# Altium schematic symbol library SCH - MCU - RENESAS - RENESAS R7FS3A67XXXXXXFL 48LQFP.SchLib: 1 symbol
Pins are listed as number, name and electrical type; pins without a type are passive.

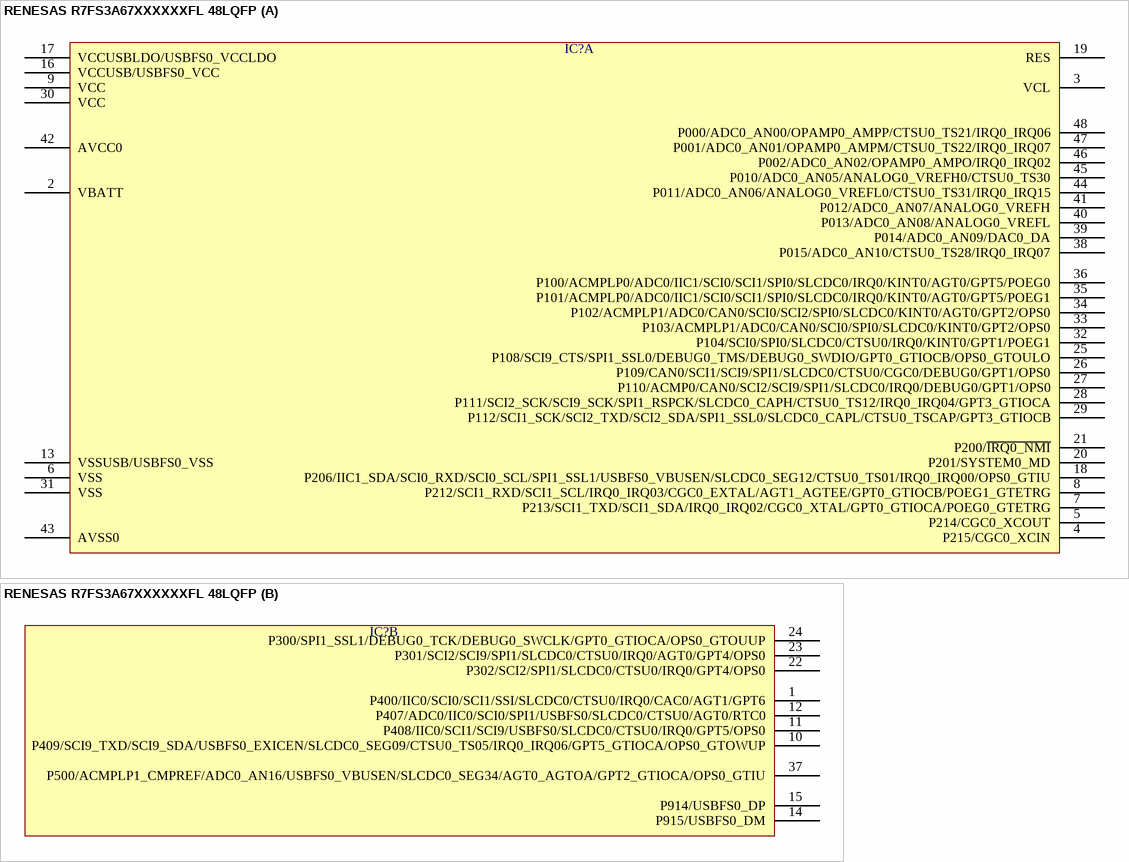
[diagram p0: symbol RENESAS R7FS3A67XXXXXXFL 48LQFP]

## RENESAS R7FS3A67XXXXXXFL 48LQFP
designator IC?  (value not drawn)
part A pins: 2 VBATT, 3 VCL, 4 P215/CGC0_XCIN, 5 P214/CGC0_XCOUT, 6 VSS, 7 P213/SCI1_TXD/SCI1_SDA/IRQ0_IRQ02/CGC0_XTAL/GPT0_GTIOCA/POEG0_GTETRG, 8 P212/SCI1_RXD/SCI1_SCL/IRQ0_IRQ03/CGC0_EXTAL/AGT1_AGTEE/GPT0_GTIOCB/POEG1_GTETRG, 9 VCC, 13 VSSUSB/USBFS0_VSS, 16 VCCUSB/USBFS0_VCC, 17 VCCUSBLDO/USBFS0_VCCLDO, 18 P206/IIC1_SDA/SCI0_RXD/SCI0_SCL/SPI1_SSL1/USBFS0_VBUSEN/SLCDC0_SEG12/CTSU0_TS01/IRQ0_IRQ00/OPS0_GTIU, 19 RES, 20 P201/SYSTEM0_MD, 21 P200/~{IRQ0_NMI}, 25 P108/SCI9_CTS/SPI1_SSL0/DEBUG0_TMS/DEBUG0_SWDIO/GPT0_GTIOCB/OPS0_GTOULO, 26 P109/CAN0/SCI1/SCI9/SPI1/SLCDC0/CTSU0/CGC0/DEBUG0/GPT1/OPS0, 27 P110/ACMP0/CAN0/SCI2/SCI9/SPI1/SLCDC0/IRQ0/DEBUG0/GPT1/OPS0, 28 P111/SCI2_SCK/SCI9_SCK/SPI1_RSPCK/SLCDC0_CAPH/CTSU0_TS12/IRQ0_IRQ04/GPT3_GTIOCA, 29 P112/SCI1_SCK/SCI2_TXD/SCI2_SDA/SPI1_SSL0/SLCDC0_CAPL/CTSU0_TSCAP/GPT3_GTIOCB, 30 VCC, 31 VSS, 32 P104/SCI0/SPI0/SLCDC0/CTSU0/IRQ0/KINT0/GPT1/POEG1, 33 P103/ACMPLP1/ADC0/CAN0/SCI0/SPI0/SLCDC0/KINT0/GPT2/OPS0, 34 P102/ACMPLP1/ADC0/CAN0/SCI0/SCI2/SPI0/SLCDC0/KINT0/AGT0/GPT2/OPS0, 35 P101/ACMPLP0/ADC0/IIC1/SCI0/SCI1/SPI0/SLCDC0/IRQ0/KINT0/AGT0/GPT5/POEG1, 36 P100/ACMPLP0/ADC0/IIC1/SCI0/SCI1/SPI0/SLCDC0/IRQ0/KINT0/AGT0/GPT5/POEG0, 38 P015/ADC0_AN10/CTSU0_TS28/IRQ0_IRQ07, 39 P014/ADC0_AN09/DAC0_DA, 40 P013/ADC0_AN08/ANALOG0_VREFL, 41 P012/ADC0_AN07/ANALOG0_VREFH, 42 AVCC0, 43 AVSS0, 44 P011/ADC0_AN06/ANALOG0_VREFL0/CTSU0_TS31/IRQ0_IRQ15, 45 P010/ADC0_AN05/ANALOG0_VREFH0/CTSU0_TS30, 46 P002/ADC0_AN02/OPAMP0_AMPO/IRQ0_IRQ02, 47 P001/ADC0_AN01/OPAMP0_AMPM/CTSU0_TS22/IRQ0_IRQ07, 48 P000/ADC0_AN00/OPAMP0_AMPP/CTSU0_TS21/IRQ0_IRQ06
part B pins: 1 P400/IIC0/SCI0/SCI1/SSI/SLCDC0/CTSU0/IRQ0/CAC0/AGT1/GPT6, 10 P409/SCI9_TXD/SCI9_SDA/USBFS0_EXICEN/SLCDC0_SEG09/CTSU0_TS05/IRQ0_IRQ06/GPT5_GTIOCA/OPS0_GTOWUP, 11 P408/IIC0/SCI1/SCI9/USBFS0/SLCDC0/CTSU0/IRQ0/GPT5/OPS0, 12 P407/ADC0/IIC0/SCI0/SPI1/USBFS0/SLCDC0/CTSU0/AGT0/RTC0, 14 P915/USBFS0_DM, 15 P914/USBFS0_DP, 22 P302/SCI2/SPI1/SLCDC0/CTSU0/IRQ0/GPT4/OPS0, 23 P301/SCI2/SCI9/SPI1/SLCDC0/CTSU0/IRQ0/AGT0/GPT4/OPS0, 24 P300/SPI1_SSL1/DEBUG0_TCK/DEBUG0_SWCLK/GPT0_GTIOCA/OPS0_GTOUUP, 37 P500/ACMPLP1_CMPREF/ADC0_AN16/USBFS0_VBUSEN/SLCDC0_SEG34/AGT0_AGTOA/GPT2_GTIOCA/OPS0_GTIU